# Altium schematic symbol library OSHW_LuxonisMaster_20201223.SchLib: 185 symbols (part 5 of 10)
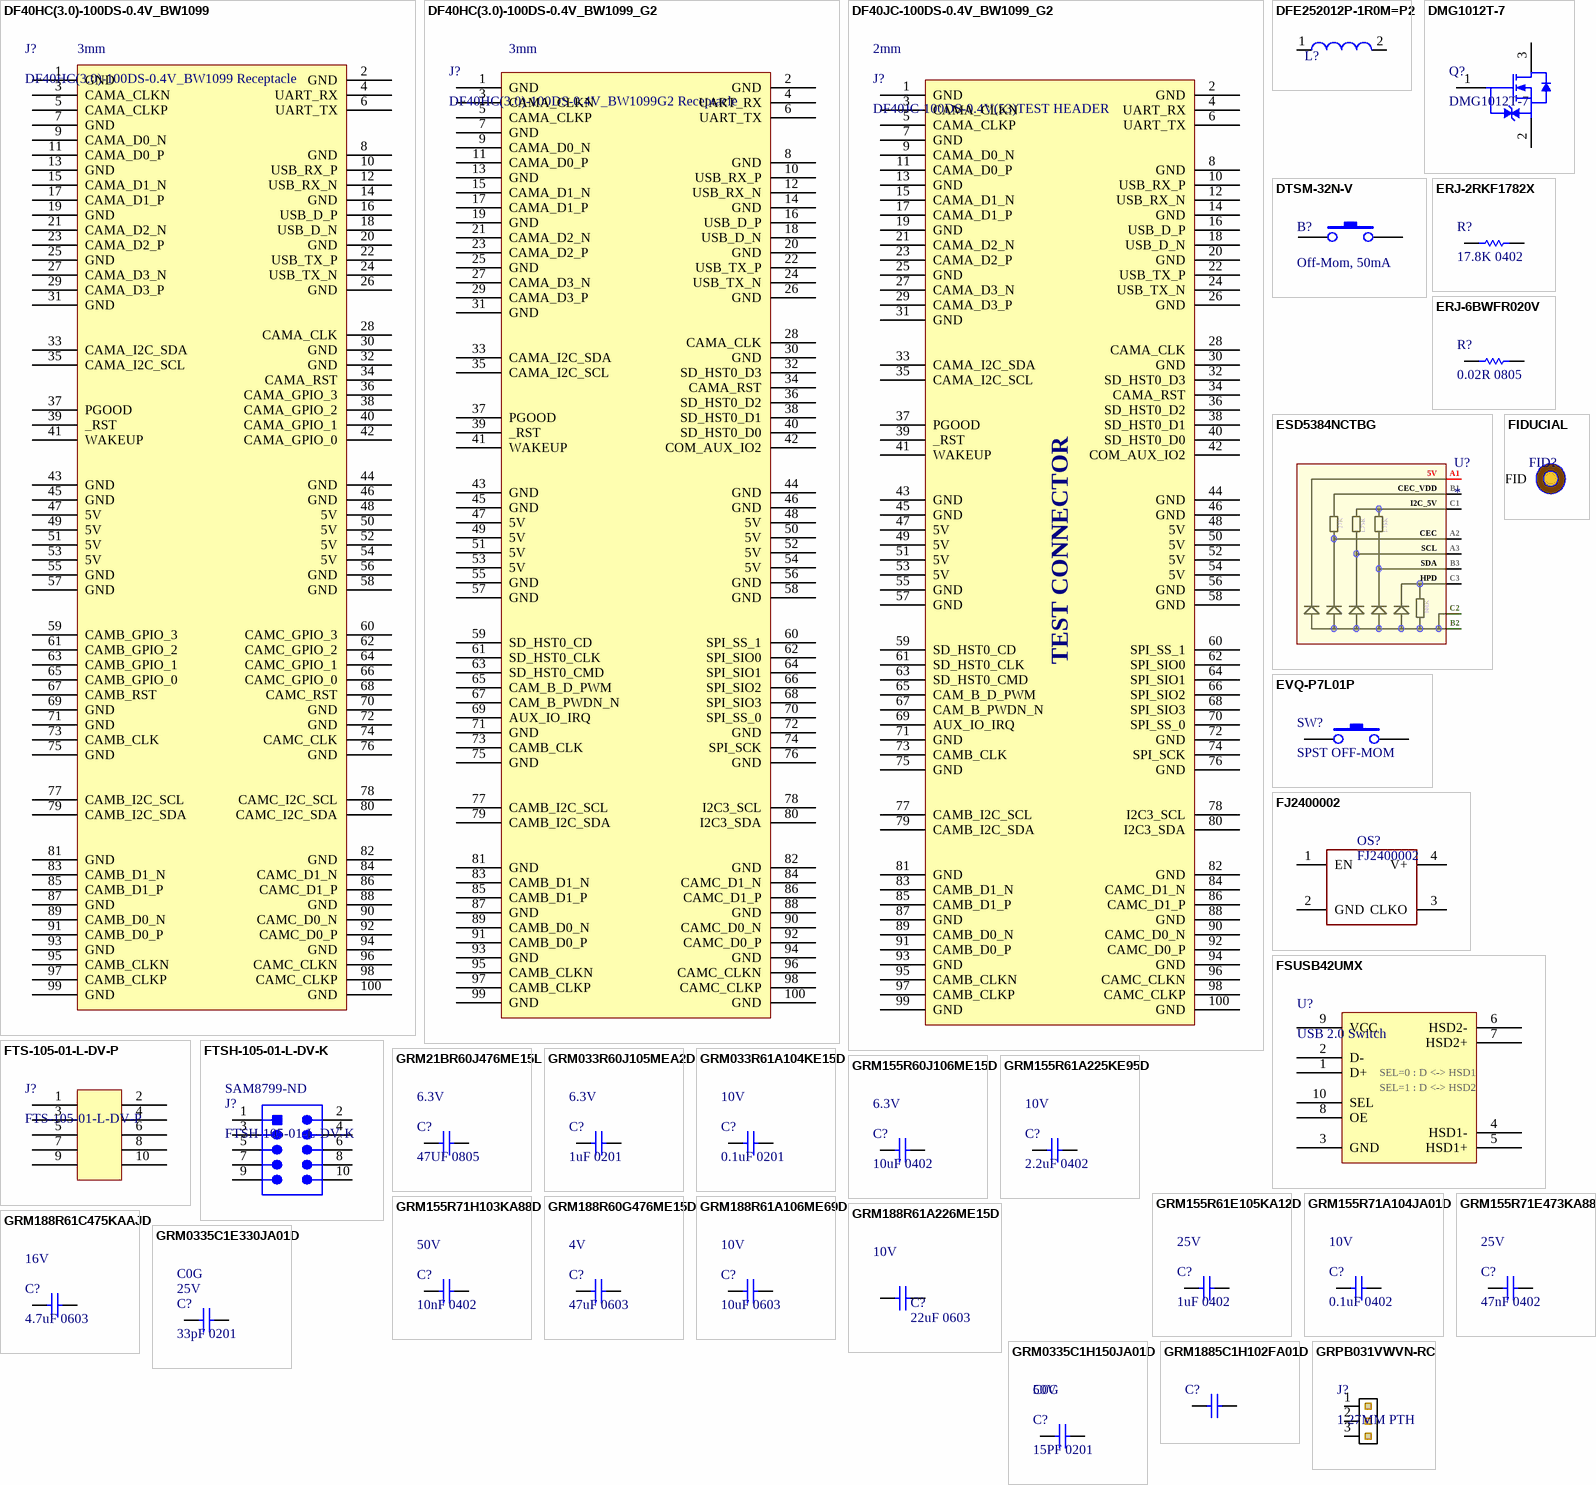
[diagram p11: symbols DF40HC(3.0)-100DS-0.4V_BW1099 to GRPB031VWVN-RC]

## GRM155R61A225KE95D
designator C?, comment 2.2uF 0402  Voltage Rating: 10V
CAP CER 2.2UF 10V X5R 0402 10%; Manufacturer 1: Murata; Manufacturer Part Number 1: GRM155R61A225KE95D; Material: Ceramic; Supplier 1: Digi-Key; Stock 1: 1453518; Pricing 1: 1=0.13000, 10=0.09000, 100=0.04250, 500=0.02982, 1000=0.02469, 2500=0.02298, 5000=0.02103 (USD); RoHS: Yes; Mount: Surface Mount; Case/Package: 0402; Weight: 0.000212oz; Case Code (Metric): 1005; Case Code (Imperial): 0402; Min Operating Temperature: -55°C; Max Operating Temperature: 85°C; Capacitance: 2.2uF; Tolerance: 10%; Packaging: Tape and Reel; Dielectric: X5R; Termination: SMD/SMT; Voltage Rating (DC): 10V; Package Quantity: 10000; Length: 1mm; Height: 0.5mm; Width: 0.5mm; Thickness: 0.022inch; Depth: 0.5mm; REACH SVHC: No SVHC; Lead Free: Lead Free; ComponentLink1URL: http://www.mouser.com/ds/2/281/c02e-2905.pdf?src-supplier=Mouser; ComponentLink1Description: http://www.mouser.com/ds/2/281/c02e-2905.pdf?src-supplier=Mouser; ComponentLink2URL: http://components.arrow.com/part/dataview/0323_04264073?src-supplier=Arrow+Europe; ComponentLink2Description: http://components.arrow.com/part/dataview/0323_04264073?src-supplier=Arrow+Europe; ComponentLink3URL: http://www.farnell.com/datasheets/1872202.pdf?src-supplier=Farnell; ComponentLink3Description: http://www.farnell.com/datasheets/1872202.pdf?src-supplier=Farnell; ComponentLink4URL: http://www.farnell.com/datasheets/2047915.pdf?src-supplier=Farnell; ComponentLink4Description: http://www.farnell.com/datasheets/2047915.pdf?src-supplier=Farnell; ComponentLink5URL: http://www.farnell.com/datasheets/1872202.pdf?src-supplier=Element14; ComponentLink5Description: http://www.farnell.com/datasheets/1872202.pdf?src-supplier=Element14; ComponentLink6URL: http://psearch.en.murata.com/capacitor/product/GRM155R61A225KE95%23.pdf?src-supplier=Avnet; ComponentLink6Description: http://psearch.en.murata.com/capacitor/product/GRM155R61A225KE95%23.pdf?src-supplier=Avnet; ComponentLink7URL: http://www.farnell.com/datasheets/2047915.pdf?src-supplier=Element14; ComponentLink7Description: http://www.farnell.com/datasheets/2047915.pdf?src-supplier=Element14; ComponentLink8URL: https://search.murata.co.jp/Ceramy/image/img/A01X/G101/ENG/GRM155R61A225KE95-01.pdf?src-supplier=Digi-Key; ComponentLink8Description: https://search.murata.co.jp/Ceramy/image/img/A01X/G101/ENG/GRM155R61A225KE95-01.pdf?src-supplier=Digi-Key; ComponentLink9URL: http://www.farnell.com/datasheets/2047915.pdf?src-supplier=Newark; ComponentLink9Description: http://www.farnell.com/datasheets/2047915.pdf?src-supplier=Newark; Supplier Part Number 1: 490-10451-1-ND
footprint CAPC0402(1005)70_N (Chip Capacitor, Body 1.0x0.5mm, Height 0.7mm, IPC Medium Density)
footprint CAPC0402(1005)70_M (Chip Capacitor, Body 1.0x0.5mm, Height 0.7mm, IPC Low Density)
footprint CAPC0402(1005)70_L (Chip Capacitor, Body 1.0x0.5mm, Height 0.7mm, IPC High Density)
pins: 1, 2

## GRM155R61E105KA12D
designator C?, comment 1uF 0402  Voltage Rating: 25V
CAP CER 1UF 25V X5R 0402 10%; Manufacturer 1: Murata; Manufacturer Part Number 1: GRM155R61E105KA12D; Material: Ceramic; Supplier 1: Digi-Key; Stock 1: 200653; Pricing 1: 1=0.10000, 10=0.07100, 100=0.03350, 500=0.02352, 1000=0.01947, 2500=0.01812, 5000=0.01658 (USD); RoHS: Yes; Mount: Surface Mount; Case/Package: 0402; Weight: 0.000212oz; Case Code (Metric): 1005; Case Code (Imperial): 0402; Min Operating Temperature: -55°C; Max Operating Temperature: 85°C; Tolerance: 10%; Capacitance: 1uF; Dielectric: X5R; Voltage Rating (DC): 25V; Packaging: Tape and Reel; Package Quantity: 10000; Termination: SMD/SMT; Voltage: 25V; Length: 1mm; Height: 0.5mm; Width: 0.5mm; Thickness: 0.022inch; Depth: 0.5mm; Lead Free: Lead Free; REACH SVHC: No SVHC; ComponentLink1URL: https://datasheet.ciiva.com/22732/1666664-22732122.pdf?src-supplier=Element14; ComponentLink1Description: https://datasheet.ciiva.com/22732/1666664-22732122.pdf?src-supplier=Element14; ComponentLink2URL: https://datasheet.ciiva.com/7719/1666664-7719006.pdf?src-supplier=Element14; ComponentLink2Description: https://datasheet.ciiva.com/7719/1666664-7719006.pdf?src-supplier=Element14; Supplier Part Number 1: 490-10017-1-ND; Supplier 2: Arrow; Supplier 3: TTI; Supplier Part Number 2: GRM155R61E105KA12D; Supplier Part Number 3: GRM155R61E105KA12D
footprint CAPC0402(1005)70_N (Chip Capacitor, Body 1.0x0.5mm, Height 0.7mm, IPC Medium Density)
footprint CAPC0402(1005)70_M (Chip Capacitor, Body 1.0x0.5mm, Height 0.7mm, IPC Low Density)
footprint CAPC0402(1005)70_L (Chip Capacitor, Body 1.0x0.5mm, Height 0.7mm, IPC High Density)
pins: 1, 2

## GRM155R71A104JA01D
designator C?, comment 0.1uF 0402  Voltage Rating: 10V
CAP CER 0.1UF 10V X7R 0402 5%; Manufacturer 1: Murata; Manufacturer Part Number 1: GRM155R71A104JA01D; Capacitance: 100nF; Supplier 1: Digi-Key; Stock 1: 1346709; Pricing 1: 1=0.10000, 10=0.02500, 100=0.01130, 500=0.00806, 1000=0.00633, 2500=0.00575, 5000=0.00529 (USD); RoHS: Yes; Mount: Surface Mount; Case/Package: 0402; Case Code (Imperial): 0402; Case Code (Metric): 1005; Min Operating Temperature: -55°C; Max Operating Temperature: 125°C; Tolerance: 5%; Packaging: Tape and Reel; Voltage Rating (DC): 10V; Dielectric: X7R; Package Quantity: 10000; Termination: SMD/SMT; Length: 1mm; Height: 0.5mm; Width: 0.02inch; Thickness: 0.022inch; Depth: 0.5mm; Radiation Hardening: No; Lead Free: Lead Free; ComponentLink1URL: https://datasheet.ciiva.com/5411/product-5411135.pdf?src-supplier=Mouser; ComponentLink1Description: https://datasheet.ciiva.com/5411/product-5411135.pdf?src-supplier=Mouser; ComponentLink2URL: https://datasheet.ciiva.com/11618/c02e-11618821.pdf?src-supplier=Avnet; ComponentLink2Description: https://datasheet.ciiva.com/11618/c02e-11618821.pdf?src-supplier=Avnet; Supplier Part Number 1: 490-10777-1-ND
footprint CAPC0402(1005)70_N (Chip Capacitor, Body 1.0x0.5mm, Height 0.7mm, IPC Medium Density)
footprint CAPC0402(1005)70_M (Chip Capacitor, Body 1.0x0.5mm, Height 0.7mm, IPC Low Density)
footprint CAPC0402(1005)70_L (Chip Capacitor, Body 1.0x0.5mm, Height 0.7mm, IPC High Density)
pins: 1, 2

## GRM155R71E473KA88D
designator C?, comment 47nF 0402  Voltage: 25V
CAP CER 0.047UF 25V X7R 0402 10%; Manufacturer: Murata; Manufacturer Part Number: GRM155R71E473KA88D; Material: Ceramic; RoHS: Yes; Mount: Surface Mount; Case/Package: 0402; Number of Pins: 2; Case Code (Metric): 1005; Case Code (Imperial): 0402; Min Operating Temperature: -55°C; Max Operating Temperature: 125°C; Capacitance: 47nF; Tolerance: 10%; Packaging: Tape and Reel; Dielectric: X7R; Voltage Rating (DC): 25V; Package Quantity: 1; Termination: SMD/SMT; Voltage Rating: 25V; Length: 1mm; Height: 0.5mm; Width: 0.02inch; Depth: 0.5mm; Thickness: 0.022inch; Radiation Hardening: No; Lead Free: Lead Free; REACH SVHC: No SVHC; ComponentLink1URL: https://datasheet.ciiva.com/17455/product-17455616.pdf?src-supplier=Avnet+Europe; ComponentLink1Description: https://datasheet.ciiva.com/17455/product-17455616.pdf?src-supplier=Avnet+Europe; ComponentLink2URL: https://datasheet.ciiva.com/131/grm155r71e473ka88-01-131494.pdf?src-supplier=Digi-Key; ComponentLink2Description: https://datasheet.ciiva.com/131/grm155r71e473ka88-01-131494.pdf?src-supplier=Digi-Key; ComponentLink3URL: https://datasheet.ciiva.com/34302/1856425-34302854.pdf?src-supplier=Jameco; ComponentLink3Description: https://datasheet.ciiva.com/34302/1856425-34302854.pdf?src-supplier=Jameco; ComponentLink4URL: https://datasheet.ciiva.com/18184/getdatasheetpartid-153136-18184712.pdf?src-supplier=Verical; ComponentLink4Description: https://datasheet.ciiva.com/18184/getdatasheetpartid-153136-18184712.pdf?src-supplier=Verical; ComponentLink5URL: https://datasheet.ciiva.com/29199/454180-da-01-en-vs-kondensator-0402-29199826.pdf?src-supplier=Conrad; ComponentLink5Description: https://datasheet.ciiva.com/29199/454180-da-01-en-vs-kondensator-0402-29199826.pdf?src-supplier=Conrad; ComponentLink6URL: https://datasheet.ciiva.com/2989/product-2989395.pdf?src-supplier=Avnet; ComponentLink6Description: https://datasheet.ciiva.com/2989/product-2989395.pdf?src-supplier=Avnet; ComponentLink7URL: https://datasheet.ciiva.com/131/grm155r71e473ka88-01-131492.pdf?src-supplier=Digi-Key; ComponentLink7Description: https://datasheet.ciiva.com/131/grm155r71e473ka88-01-131492.pdf?src-supplier=Digi-Key; ComponentLink8URL: https://datasheet.ciiva.com/131/grm155r71e473ka88-01-131493.pdf?src-supplier=Digi-Key; ComponentLink8Description: https://datasheet.ciiva.com/131/grm155r71e473ka88-01-131493.pdf?src-supplier=Digi-Key; ComponentLink9URL: https://datasheet.ciiva.com/7937/608985-7937623.pdf?src-supplier=Element14; ComponentLink9Description: https://datasheet.ciiva.com/7937/608985-7937623.pdf?src-supplier=Element14; ComponentLink10URL: https://datasheet.ciiva.com/14103/grmseries-highdielectrictype-eng-14103754.pdf?src-supplier=Distrelec; ComponentLink10Description: https://datasheet.ciiva.com/14103/grmseries-highdielectrictype-eng-14103754.pdf?src-supplier=Distrelec; ComponentLink11URL: https://datasheet.ciiva.com/5424/product-5424844.pdf?src-supplier=Mouser; ComponentLink11Description: https://datasheet.ciiva.com/5424/product-5424844.pdf?src-supplier=Mouser; ComponentLink12URL: https://datasheet.ciiva.com/16213/product-16213823.pdf?src-supplier=Future+Electronics; ComponentLink12Description: https://datasheet.ciiva.com/16213/product-16213823.pdf?src-supplier=Future+Electronics; Supplier 1: Digi-Key; Manufacturer 1: Murata; Manufacturer Part Number 1: GRM155R71E473KA88D; Stock 1: 1130633; Pricing 1: 1=0.10000, 10=0.06300, 100=0.02820, 500=0.02012, 1000=0.01581, 2500=0.01438, 5000=0.01323 (USD); Supplier Part Number 1: 490-3254-1-ND
footprint CAPC0402(1005)70_N (Chip Capacitor, Body 1.0x0.5mm, Height 0.7mm, IPC Medium Density)
footprint CAPC0402(1005)70_M (Chip Capacitor, Body 1.0x0.5mm, Height 0.7mm, IPC Low Density)
footprint CAPC0402(1005)70_L (Chip Capacitor, Body 1.0x0.5mm, Height 0.7mm, IPC High Density)
pins: 1, 2

## GRM155R71H103KA88D
designator C?, comment 10nF 0402  Voltage Rating: 50V
CAP CER 10000PF 50V X7R 0402; Manufacturer 1: Murata; Manufacturer Part Number 1: GRM155R71H103KA88D; Material: Ceramic; Tolerance: 10%; Voltage: 25V; Supplier 1: Digi-Key; Stock 1: 6923572; Pricing 1: 1=0.10000, 10=0.03800, 100=0.01690, 500=0.01208, 1000=0.00949, 2500=0.00862, 5000=0.00794 (USD); RoHS: Yes; Mount: Surface Mount; Case/Package: 0402; Number of Pins: 2; Case Code (Metric): 1005; Case Code (Imperial): 0402; Min Operating Temperature: -55°C; Max Operating Temperature: 125°C; Capacitance: 10nF; Packaging: Tape and Reel; Termination: SMD/SMT; Voltage Rating (DC): 50V; Package Quantity: 1; Dielectric: X7R; Length: 1mm; Height: 0.5mm; Width: 0.02inch; Thickness: 0.022inch; Depth: 0.5mm; Radiation Hardening: No; REACH SVHC: No SVHC; Lead Free: Lead Free; ComponentLink1URL: https://datasheet.ciiva.com/129/product-129810.pdf?src-supplier=Digi-Key; ComponentLink1Description: https://datasheet.ciiva.com/129/product-129810.pdf?src-supplier=Digi-Key; ComponentLink2URL: https://datasheet.ciiva.com/19476/1856433-19476546.pdf?src-supplier=Jameco; ComponentLink2Description: https://datasheet.ciiva.com/19476/1856433-19476546.pdf?src-supplier=Jameco; ComponentLink3URL: https://datasheet.ciiva.com/11786/0900766b80ef921d-11786340.pdf?src-supplier=RSComponents; ComponentLink3Description: https://datasheet.ciiva.com/11786/0900766b80ef921d-11786340.pdf?src-supplier=RSComponents; ComponentLink4URL: https://datasheet.ciiva.com/18100/getdatasheetpartid-27434-18100660.pdf?src-supplier=Verical; ComponentLink4Description: https://datasheet.ciiva.com/18100/getdatasheetpartid-27434-18100660.pdf?src-supplier=Verical; ComponentLink5URL: https://datasheet.ciiva.com/22698/1747449-22698420.pdf?src-supplier=Element14; ComponentLink5Description: https://datasheet.ciiva.com/22698/1747449-22698420.pdf?src-supplier=Element14; ComponentLink6URL: https://datasheet.ciiva.com/29199/454225-da-01-en-vs-kondensator-0402-29199740.pdf?src-supplier=Conrad; ComponentLink6Description: https://datasheet.ciiva.com/29199/454225-da-01-en-vs-kondensator-0402-29199740.pdf?src-supplier=Conrad; ComponentLink7URL: https://datasheet.ciiva.com/129/grm155r71h103ka88-01-129811.pdf?src-supplier=Digi-Key; ComponentLink7Description: https://datasheet.ciiva.com/129/grm155r71h103ka88-01-129811.pdf?src-supplier=Digi-Key; ComponentLink8URL: https://datasheet.ciiva.com/129/grm155r71h103ka88-01-129812.pdf?src-supplier=Digi-Key; ComponentLink8Description: https://datasheet.ciiva.com/129/grm155r71h103ka88-01-129812.pdf?src-supplier=Digi-Key; ComponentLink9URL: https://datasheet.ciiva.com/16495/product-16495290.pdf?src-supplier=Future+Electronics; ComponentLink9Description: https://datasheet.ciiva.com/16495/product-16495290.pdf?src-supplier=Future+Electronics; ComponentLink10URL: https://datasheet.ciiva.com/5410/product-5410990.pdf?src-supplier=Mouser; ComponentLink10Description: https://datasheet.ciiva.com/5410/product-5410990.pdf?src-supplier=Mouser; Supplier 2: Mouser; Supplier 3: Arrow; Supplier Part Number 1: 490-4516-1-ND; Supplier Part Number 2: 81-GRM155R71H103KA8D; Supplier Part Number 3: GRM155R71H103KA88D
footprint CAPC0402(1005)60_L (Chip Capacitor, Body 1.0x0.5mm, Height 0.6mm, IPC High Density)
footprint CAPC0402(1005)60_M (Chip Capacitor, Body 1.0x0.5mm, Height 0.6mm, IPC Low Density)
footprint CAPC0402(1005)60_N (Chip Capacitor, Body 1.0x0.5mm, Height 0.6mm, IPC Medium Density)
pins: 1, 2

## GRM188R60G476ME15D
designator C?, comment 47uF 0603  Voltage Rating: 4V
CAP CER 47UF 4V X5R 0603; Manufacturer 1: Murata; Manufacturer Part Number 1: GRM188R60G476ME15D; Tolerance: 20%; Supplier 1: Digi-Key; Stock 1: 244871; Pricing 1: 1=0.60000, 10=0.42300, 100=0.27850, 500=0.20632, 1000=0.17537 (USD); RoHS: Yes; Mount: Surface Mount; Case/Package: 0603; Case Code (Metric): 1608; Case Code (Imperial): 0603; Min Operating Temperature: -55°C; Max Operating Temperature: 85°C; Packaging: Tape and Reel; Capacitance: 47uF; Length: 0.063inch; Width: 0.031inch; Thickness: 0.039inch; ComponentLink1URL: http://search.murata.co.jp/Ceramy/image/img/A01X/G101/ENG/GRM188R60G476ME15-01.pdf?src-supplier=Digi-Key; ComponentLink1Description: http://search.murata.co.jp/Ceramy/image/img/A01X/G101/ENG/GRM188R60G476ME15-01.pdf?src-supplier=Digi-Key; Supplier 2: Mouser; Supplier 3: Arrow; Supplier Part Number 1: 490-13246-1-ND; Supplier Part Number 2: 81-GRM188R60G476ME5D; Supplier Part Number 3: GRM188R60G476ME15D
footprint CAPC0603(1608)100_L (Chip Capacitor, Body 1.6x0.8mm, Height 1.0mm, IPC High Density)
footprint CAPC0603(1608)100_M (Chip Capacitor, Body 1.6x0.8mm, Height 1.0mm, IPC Low Density)
footprint CAPC0603(1608)100_N (Chip Capacitor, Body 1.6x0.8mm, Height 1.0mm, IPC Medium Density)
pins: 1, 2

## GRM188R61A106ME69D
designator C?, comment 10uF 0603  Voltage Rating: 10V
CAP CER 10UF 10V X5R 0603 20%; Manufacturer 1: Murata; Manufacturer Part Number 1: GRM188R61A106ME69D; Material: Ceramic; Supplier 1: Digi-Key; Stock 1: 2873098; Pricing 1: 1=0.21000, 10=0.14100, 100=0.07130, 500=0.04876, 1000=0.04313 (USD); RoHS: Yes; Mount: Surface Mount; Case/Package: 0603; Weight: 0.000222oz; Case Code (Metric): 1608; Case Code (Imperial): 0603; Min Operating Temperature: -55°C; Max Operating Temperature: 85°C; Packaging: Tape and Reel; Tolerance: 20%; Capacitance: 10uF; Dielectric: X5R; Voltage Rating (DC): 10V; Package Quantity: 4000; Termination: SMD/SMT; Length: 1.6mm; Height: 0.8mm; Width: 0.8mm; Thickness: 0.035inch; Depth: 0.8mm; REACH SVHC: Unknown; Lead Free: Lead Free; ComponentLink1URL: http://www.mouser.com/ds/2/281/c02e-2905.pdf?src-supplier=Mouser; ComponentLink1Description: http://www.mouser.com/ds/2/281/c02e-2905.pdf?src-supplier=Mouser; ComponentLink2URL: http://components.arrow.com/part/dataview/0323_06119472?src-supplier=Arrow+Europe; ComponentLink2Description: http://components.arrow.com/part/dataview/0323_06119472?src-supplier=Arrow+Europe; ComponentLink3URL: http://www.farnell.com/datasheets/2048014.pdf?src-supplier=Farnell; ComponentLink3Description: http://www.farnell.com/datasheets/2048014.pdf?src-supplier=Farnell; ComponentLink4URL: http://www.farnell.com/datasheets/1872210.pdf?src-supplier=Farnell; ComponentLink4Description: http://www.farnell.com/datasheets/1872210.pdf?src-supplier=Farnell; ComponentLink5URL: http://search.murata.co.jp/Ceramy/image/img/A01X/G101/ENG/GRM188R61A106ME69-01.pdf?src-supplier=Digi-Key; ComponentLink5Description: http://search.murata.co.jp/Ceramy/image/img/A01X/G101/ENG/GRM188R61A106ME69-01.pdf?src-supplier=Digi-Key; ComponentLink6URL: http://www.farnell.com/datasheets/1872210.pdf?src-supplier=Newark; ComponentLink6Description: http://www.farnell.com/datasheets/1872210.pdf?src-supplier=Newark; ComponentLink7URL: http://www.farnell.com/datasheets/2048014.pdf?src-supplier=Element14; ComponentLink7Description: http://www.farnell.com/datasheets/2048014.pdf?src-supplier=Element14; ComponentLink8URL: http://www.farnell.com/datasheets/2048014.pdf?src-supplier=Newark; ComponentLink8Description: http://www.farnell.com/datasheets/2048014.pdf?src-supplier=Newark; Supplier Part Number 1: 490-10475-1-ND
footprint CAPC0603(1608)100_N (Chip Capacitor, Body 1.6x0.8mm, Height 1.0mm, IPC Medium Density)
footprint CAPC0603(1608)100_M (Chip Capacitor, Body 1.6x0.8mm, Height 1.0mm, IPC Low Density)
footprint CAPC0603(1608)100_L (Chip Capacitor, Body 1.6x0.8mm, Height 1.0mm, IPC High Density)
pins: 1, 2

## GRM188R61A226ME15D
designator C?, comment 22uF 0603  Voltage Rating: 10V
CAP CER 22UF 10V X5R 0603 20%; Manufacturer 1: Murata; Manufacturer Part Number 1: GRM188R61A226ME15D; Material: Ceramic; ComponentLink1URL: https://datasheet.ciiva.com/46444/1769893-46444975.pdf?src-supplier=Element14; ComponentLink1Description: https://datasheet.ciiva.com/46444/1769893-46444975.pdf?src-supplier=Element14; Supplier 1: Digi-Key; Stock 1: 984716; Pricing 1: 1=0.31000, 10=0.21500, 100=0.12160, 500=0.08584, 1000=0.07512 (USD); RoHS: Yes; Mount: Surface Mount; Case/Package: 0603; Weight: 0.000222oz; Case Code (Metric): 1608; Case Code (Imperial): 0603; Min Operating Temperature: -55°C; Max Operating Temperature: 85°C; Capacitance: 22uF; Tolerance: 20%; Packaging: Tape and Reel; Dielectric: X5R; Voltage Rating (DC): 10V; Termination: SMD/SMT; Package Quantity: 4000; Length: 1.6mm; Height: 0.8mm; Width: 0.8mm; Thickness: 0.039inch; Depth: 0.8mm; REACH SVHC: No SVHC; Lead Free: Lead Free; Supplier Part Number 1: 490-10476-1-ND
footprint CAPC0603(1608)100_N (Chip Capacitor, Body 1.6x0.8mm, Height 1.0mm, IPC Medium Density)
footprint CAPC0603(1608)100_M (Chip Capacitor, Body 1.6x0.8mm, Height 1.0mm, IPC Low Density)
footprint CAPC0603(1608)100_L (Chip Capacitor, Body 1.6x0.8mm, Height 1.0mm, IPC High Density)
pins: 1, 2

## GRM188R61C475KAAJD
designator C?, comment 4.7uF 0603  Voltage Rating: 16V
CAP CER 4.7UF 16V X5R 0603 10%; Manufacturer 1: Murata; Manufacturer Part Number 1: GRM188R61C475KAAJD; Material: Ceramic; Supplier 1: Digi-Key; Stock 1: 455058; Pricing 1: 1=0.35000, 10=0.24600, 100=0.14730, 500=0.11050, 1000=0.09331 (USD); RoHS: Yes; Mount: Surface Mount; Case/Package: 0603; Weight: 0.000222oz; Case Code (Metric): 1608; Case Code (Imperial): 0603; Min Operating Temperature: -55°C; Max Operating Temperature: 85°C; Capacitance: 4.7uF; Tolerance: 10%; Packaging: Tape and Reel; Dielectric: X5R; Termination: SMD/SMT; Voltage Rating (DC): 16V; Package Quantity: 4000; Length: 1.6mm; Height: 0.8mm; Width: 0.8mm; Thickness: 0.037inch; Depth: 0.8mm; REACH SVHC: No SVHC; Lead Free: Lead Free; ComponentLink1URL: https://datasheet.ciiva.com/14813/595grm188r61c475kaaj23-14813668.pdf?src-supplier=Arrow; ComponentLink1Description: https://datasheet.ciiva.com/14813/595grm188r61c475kaaj23-14813668.pdf?src-supplier=Arrow; Supplier 2: Digi-Key; Manufacturer 2: Murata; Manufacturer Part Number 2: GRM188R61C475KAAJD; Stock 2: 455058; Pricing 2: 1=0.35000, 10=0.24600, 100=0.14730, 500=0.11050, 1000=0.09331 (USD); Supplier 3: Digi-Key; Manufacturer 3: Murata; Manufacturer Part Number 3: GRM188R61C475KAAJD; Stock 3: 452000; Pricing 3: 4000=0.07259, 8000=0.06832, 12000=0.06619, 28000=0.06405 (USD); Supplier Part Number 1: 490-10481-1-ND; Supplier Part Number 2: 490-10481-6-ND; Supplier Part Number 3: 490-10481-2-ND
footprint CAPC0603(1608)100_N (Chip Capacitor, Body 1.6x0.8mm, Height 1.0mm, IPC Medium Density)
footprint CAPC0603(1608)100_M (Chip Capacitor, Body 1.6x0.8mm, Height 1.0mm, IPC Low Density)
footprint CAPC0603(1608)100_L (Chip Capacitor, Body 1.6x0.8mm, Height 1.0mm, IPC High Density)
pins: 1, 2

## GRM0335C1E330JA01D
designator C?, comment 33pF 0201  Voltage Rating: 25V  Dielectric: C0G
CAP CER 33PF 25V C0G/NP0 0201; Manufacturer 1: Murata; Manufacturer Part Number 1: GRM0335C1E330JA01D; Tolerance: 5%; Supplier 1: Digi-Key; Stock 1: 1107200; Pricing 1: 1=0.10000, 10=0.01500, 100=0.00680, 500=0.00484, 1000=0.00380, 2500=0.00345, 5000=0.00317 (USD); RoHS: Yes; Mount: Surface Mount; Case/Package: 0201; Case Code (Metric): 0603; Case Code (Imperial): 0201; Min Operating Temperature: -55°C; Max Operating Temperature: 125°C; Capacitance: 33pF; Packaging: Tape and Reel; Package Quantity: 15000; Voltage Rating (DC): 25V; Termination: SMD/SMT; Length: 0.6mm; Height: 0.3mm; Width: 0.012inch; Thickness: 0.013inch; Depth: 0.3mm; REACH SVHC: No SVHC; Lead Free: Lead Free; ComponentLink1URL: https://datasheet.ciiva.com/29538/partnumbering-e-01-29538933.pdf?src-supplier=Digi-Key; ComponentLink1Description: https://datasheet.ciiva.com/29538/partnumbering-e-01-29538933.pdf?src-supplier=Digi-Key; Supplier 2: Mouser; Supplier Part Number 2: 81-GRM0335C1E330JA1D; Supplier Part Number 1: 490-10678-1-ND
footprint CAPC0201(0603)33_L (Chip Capacitor, Body 0.6x0.3mm, Height 0.33mm, IPC High Density)
footprint CAPC0201(0603)33_M (Chip Capacitor, Body 0.6x0.3mm, Height 0.33mm, IPC Low Density)
footprint CAPC0201(0603)33_N (Chip Capacitor, Body 0.6x0.3mm, Height 0.33mm, IPC Medium Density)
pins: 1, 2

## GRM0335C1H150JA01D
designator C?, comment 15PF 0201  Voltage: 50V  Dielectric: C0G
CAP CER 15PF 50V C0G/NP0 0201; Manufacturer 1: Murata; Manufacturer Part Number 1: GRM0335C1H150JA01D; Tolerance: 5%; Supplier 1: Digi-Key; Stock 1: 667552; Pricing 1: 1=0.10000, 10=0.01500, 100=0.00680, 500=0.00484, 1000=0.00380, 2500=0.00345, 5000=0.00317 (USD); RoHS: Yes; Mount: Surface Mount; Case/Package: 0201; Case Code (Metric): 0603; Case Code (Imperial): 0201; Min Operating Temperature: -55°C; Max Operating Temperature: 125°C; Capacitance: 15pF; Packaging: Tape and Reel; Voltage Rating: 50V; Voltage Rating (DC): 50V; Package Quantity: 1; Termination: SMD/SMT; Length: 0.6mm; Height: 0.3mm; Width: 0.012inch; Thickness: 0.013inch; Depth: 0.3mm; Radiation Hardening: No; Lead Free: Lead Free; REACH SVHC: No SVHC; ComponentLink1URL: https://datasheet.ciiva.com/11608/product-11608680.pdf?src-supplier=Avnet; ComponentLink1Description: https://datasheet.ciiva.com/11608/product-11608680.pdf?src-supplier=Avnet; ComponentLink2URL: https://datasheet.ciiva.com/26843/getdatasheetpartid-707838-26843722.pdf?src-supplier=Verical; ComponentLink2Description: https://datasheet.ciiva.com/26843/getdatasheetpartid-707838-26843722.pdf?src-supplier=Verical; ComponentLink3URL: https://datasheet.ciiva.com/14906/partnumbering-e-01-14906504.pdf?src-supplier=Digi-Key; ComponentLink3Description: https://datasheet.ciiva.com/14906/partnumbering-e-01-14906504.pdf?src-supplier=Digi-Key; ComponentLink4URL: https://datasheet.ciiva.com/5445/product-5445691.pdf?src-supplier=Mouser; ComponentLink4Description: https://datasheet.ciiva.com/5445/product-5445691.pdf?src-supplier=Mouser; Supplier 2: Mouser; Supplier Part Number 1: 490-6116-1-ND; Supplier Part Number 2: 81-GRM0335C1H150JA1D
footprint CAPC0201(0603)33_L (Chip Capacitor, Body 0.6x0.3mm, Height 0.33mm, IPC High Density)
footprint CAPC0201(0603)33_M (Chip Capacitor, Body 0.6x0.3mm, Height 0.33mm, IPC Low Density)
footprint CAPC0201(0603)33_N (Chip Capacitor, Body 0.6x0.3mm, Height 0.33mm, IPC Medium Density)
pins: 1, 2

## GRM1885C1H102FA01D
designator C?, comment 1nF 0603 C0G  (value not drawn)
CAP CER 1000PF 50V C0G/NP0 0603; Manufacturer: Murata; Manufacturer Part Number: GRM1885C1H102FA01D; Material: Ceramic; Tolerance: 1%; Temperature Coefficient: 30ppm/°C; RoHS: Yes; Mount: Surface Mount; Number of Pins: 2; Case Code (Metric): 1608; Case Code (Imperial): 0603; Min Operating Temperature: -55°C; Max Operating Temperature: 125°C; Packaging: Tape and Reel; Package Quantity: 4000; Termination: SMD/SMT; Voltage Rating (DC): 50V; Voltage: 50V; Length: 1.6mm; Height: 0.8mm; Width: 0.031inch; Thickness: 0.035inch; Depth: 0.8mm; Radiation Hardening: No; REACH SVHC: No SVHC; Lead Free: Lead Free; ComponentLink1URL: https://datasheet.ciiva.com/6072/1747444-6072454.pdf?src-supplier=Farnell; ComponentLink1Description: https://datasheet.ciiva.com/6072/1747444-6072454.pdf?src-supplier=Farnell; ComponentLink2URL: https://datasheet.ciiva.com/7828/1747444-7828892.pdf?src-supplier=Element14; ComponentLink2Description: https://datasheet.ciiva.com/7828/1747444-7828892.pdf?src-supplier=Element14; ComponentLink3URL: https://datasheet.ciiva.com/11621/c02e-11621692.pdf?src-supplier=Avnet; ComponentLink3Description: https://datasheet.ciiva.com/11621/c02e-11621692.pdf?src-supplier=Avnet; ComponentLink4URL: https://datasheet.ciiva.com/16624/c02e-16624140.pdf?src-supplier=Avnet+Europe; ComponentLink4Description: https://datasheet.ciiva.com/16624/c02e-16624140.pdf?src-supplier=Avnet+Europe; ComponentLink5URL: https://datasheet.ciiva.com/22698/1747444-22698428.pdf?src-supplier=Element14; ComponentLink5Description: https://datasheet.ciiva.com/22698/1747444-22698428.pdf?src-supplier=Element14; ComponentLink6URL: https://datasheet.ciiva.com/5416/c02e-5416637.pdf?src-supplier=Mouser; ComponentLink6Description: https://datasheet.ciiva.com/5416/c02e-5416637.pdf?src-supplier=Mouser; ComponentLink7URL: https://datasheet.ciiva.com/6270/partnumbering-e-01-6270573.pdf?src-supplier=Digi-Key; ComponentLink7Description: https://datasheet.ciiva.com/6270/partnumbering-e-01-6270573.pdf?src-supplier=Digi-Key; ComponentLink8URL: https://datasheet.ciiva.com/6270/partnumbering-e-01-6270574.pdf?src-supplier=Digi-Key; ComponentLink8Description: https://datasheet.ciiva.com/6270/partnumbering-e-01-6270574.pdf?src-supplier=Digi-Key; ComponentLink9URL: https://datasheet.ciiva.com/6270/partnumbering-e-01-6270575.pdf?src-supplier=Digi-Key; ComponentLink9Description: https://datasheet.ciiva.com/6270/partnumbering-e-01-6270575.pdf?src-supplier=Digi-Key; ComponentLink10URL: https://datasheet.ciiva.com/16426/l0005e-16426367.pdf?src-supplier=Future+Electronics; ComponentLink10Description: https://datasheet.ciiva.com/16426/l0005e-16426367.pdf?src-supplier=Future+Electronics; Supplier 1: Digi-Key; Manufacturer 1: Murata; Manufacturer Part Number 1: GRM1885C1H102FA01D; Stock 1: 343900; Pricing 1: 1=0.19000, 10=0.13300, 100=0.06260, 500=0.04386, 1000=0.03631 (USD); Case/Package: 0603; Capacitance: 1nF; Dielectric: C0G; Voltage Rating: 50V; Supplier Part Number 1: 490-6376-1-ND
footprint CAPC0603(1608)100_N (Chip Capacitor, Body 1.6x0.8mm, Height 1.0mm, IPC Medium Density)
footprint CAPC0603(1608)100_M (Chip Capacitor, Body 1.6x0.8mm, Height 1.0mm, IPC Low Density)
footprint CAPC0603(1608)100_L (Chip Capacitor, Body 1.6x0.8mm, Height 1.0mm, IPC High Density)
pins: 1, 2

## GRPB031VWVN-RC
designator J?, comment 1.27MM PTH
CONN HEADER VERT 3POS 1.27MM; Manufacturer 1: Sullins; Manufacturer Part Number 1: GRPB031VWVN-RC; Number of Positions: 3; Connector Type: Male Pin; Pitch: 0.05inch; Supplier 1: Digi-Key; Stock 1: 114623; Pricing 1: 1=0.28000, 10=0.26100, 100=0.18300, 500=0.15688, 1000=0.13073, 5000=0.11205, 10000=0.10790 (USD); RoHS: Yes; Mount: Through Hole; Contact Plating: Gold; Package Quantity: 1; Number of Rows: 1; Packaging: Bulk; Termination: Solder; Contact Mating Length: 0.118inch; Lead Free: Lead Free; ComponentLink1URL: https://datasheet.ciiva.com/726/71-grpb-1vwvn-rc-10957-c-726649.pdf?src-supplier=Digi-Key; ComponentLink1Description: https://datasheet.ciiva.com/726/71-grpb-1vwvn-rc-10957-c-726649.pdf?src-supplier=Digi-Key; Supplier 2: Future Electronics; Supplier Part Number 1: S9014E-03-ND; Supplier Part Number 2: GRPB031VWVN-RC-BAG
footprint GRPB031VWVN-RC (Header, 3-Leads, Body 3.81x2.14mm, Pitch 1.27mm (SLIN-GRPB031VWVN-RC_V))
pins: 1, 2, 3

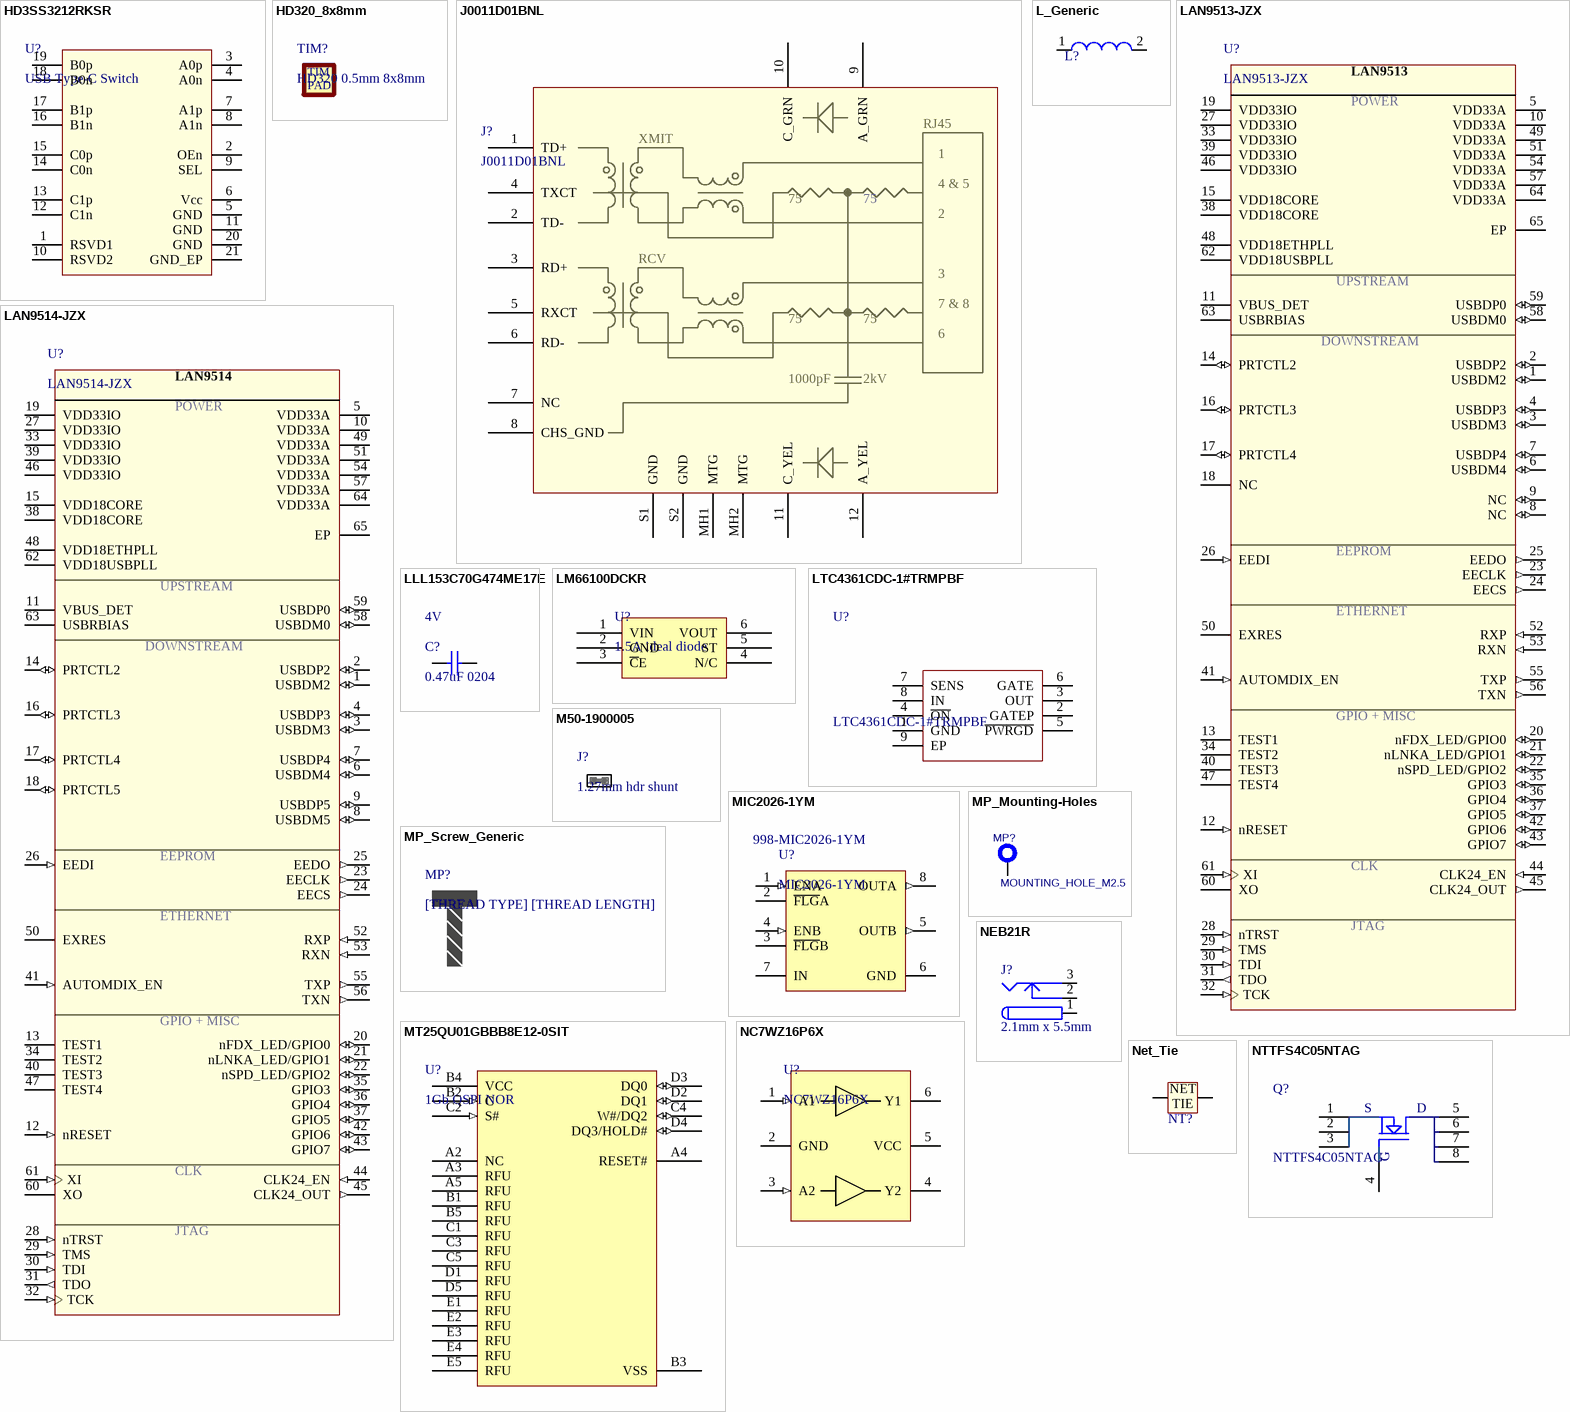
[diagram p4: symbols HD3SS3212RKSR to NTTFS4C05NTAG]

## HD3SS3212RKSR
designator U?, comment USB Type-C Switch
IC MUX 2:1 8 OHM 20VQFN; Manufacturer 1: Texas Instruments; Manufacturer Part Number 1: HD3SS3212RKSR; Bandwidth: 8GHz; Min Supply Voltage: 3V; Max Supply Voltage: 3.6V; Data Rate: 480Mbps; Number of Ports: 3; USB Standard: USB 3.1; Supplier 1: Digi-Key; Stock 1: 36674; Pricing 1: 1=1.79000, 10=1.61000, 100=1.29440, 500=1.06348, 1000=0.88117 (USD); RoHS: Yes; Mount: Standard; Case/Package: VQFN; Number of Pins: 20; Min Operating Temperature: 0°C; Max Operating Temperature: 70°C; Packaging: Tape and Reel; Lead Free: Lead Free; REACH SVHC: No SVHC; ComponentLink1URL: http://www.ti.com/general/docs/lit/getliterature.tsp?genericPartNumber=HD3SS3212&&fileType=pdf&src-supplier=Avnet; ComponentLink1Description: http://www.ti.com/general/docs/lit/getliterature.tsp?genericPartNumber=HD3SS3212&&fileType=pdf&src-supplier=Avnet; ComponentLink2URL: http://www.ti.com/general/docs/lit/getliterature.tsp?genericPartNumber=HD3SS3212&amp;&amp;fileType=pdf&src-supplier=Farnell; ComponentLink2Description: http://www.ti.com/general/docs/lit/getliterature.tsp?genericPartNumber=HD3SS3212&amp;&amp;fileType=pdf&src-supplier=Farnell; ComponentLink3URL: http://www.ti.com/lit/ds/symlink/hd3ss3212.pdf?src-supplier=Digi-Key; ComponentLink3Description: http://www.ti.com/lit/ds/symlink/hd3ss3212.pdf?src-supplier=Digi-Key; ComponentLink4URL: http://www.ti.com/lit/gpn/hd3ss3212?src-supplier=Mouser; ComponentLink4Description: http://www.ti.com/lit/gpn/hd3ss3212?src-supplier=Mouser; ComponentLink5URL: http://www.ti.com/general/docs/lit/getliterature.tsp?genericPartNumber=HD3SS3212&&fileType=pdf&src-supplier=Element14; ComponentLink5Description: http://www.ti.com/general/docs/lit/getliterature.tsp?genericPartNumber=HD3SS3212&&fileType=pdf&src-supplier=Element14; Supplier Part Number 1: 296-42174-1-ND
footprint HD3SS3212RKSR (VQFN-20)
pins: 1 RSVD1, 2 OEn, 3 A0p, 4 A0n, 5 GND, 6 Vcc, 7 A1p, 8 A1n, 9 SEL, 10 RSVD2, 11 GND, 12 C1n, 13 C1p, 14 C0n, 15 C0p, 16 B1n, 17 B1p, 18 B0n, 19 B0p, 20 GND, 21 GND_EP

## HD320_8x8mm
designator TIM?, comment HD320 0.5mm 8x8mm
Manufacturer 1: Laird; Manufacturer Part Number 1: HD320
footprint HD320_8x8mm (HD320 TIM 8x8mm 0.5mm thick, uncompressed)
text: TIM; PAD

## J0011D01BNL
designator J?
CONN MAGJACK 1PORT 100 BASE-TX 1 Port RJ45 Magjack Connector Through Hole 10/100 Base-TX, AutoMDIX; Manufacturer 1: Pulse; Number of Contacts: 8; Shielding: Shielded; Gender: Female; Current Rating: 8mA; Number of Ports: 1; Direction: Down; Number of Cores per Jack: 4; Pitch: 2.54mm; Supplier 1: Digi-Key; Manufacturer Part Number 1: J0011D01BNL; Stock 1: 2382; Pricing 1: 1=7.92000, 10=7.59000, 25=6.93000, 50=6.60000, 100=6.27000, 250=5.61000, 500=5.28000, 1000=4.62000 (USD); RoHS: Yes; Mount: Through Hole; Contact Plating: Gold; Contact Material: Bronze; Color: Green,Yellow; Housing Material: Thermoplastic; Min Operating Temperature: 0°C; Max Operating Temperature: 70°C; Termination: Solder; Orientation: Right Angle; Package Quantity: 30; Number of Rows: 1; Packaging: Tray; Connector Type: RJ45; Number of Positions Loaded: 8; Length: 16.26mm; Depth: 21.59mm; Radiation Hardening: No; Lead Free: Lead Free; ComponentLink1URL: https://datasheet.ciiva.com/3138/+j403-3138718.pdf?src-supplier=Avnet; ComponentLink1Description: https://datasheet.ciiva.com/3138/+j403-3138718.pdf?src-supplier=Avnet; ComponentLink2URL: https://datasheet.ciiva.com/16650/+j403-16650550.pdf?src-supplier=Avnet+Europe; ComponentLink2Description: https://datasheet.ciiva.com/16650/+j403-16650550.pdf?src-supplier=Avnet+Europe; Supplier Part Number 1: 553-1483-ND; Supplier 2: Arrow; Supplier 3: Mouser; Supplier 4: TTI; Supplier Part Number 2: J0011D01BNL; Supplier Part Number 3: 673-J0011D01BNL; Supplier Part Number 4: J0011D01BNL
footprint J0011D01BNL (THD, 12-Leads, Body 21.59x16.26mm, Pitch 1.27mm)
pins: 1 TD+, 1, 2 TD-, 2, 3 RD+, 4 TXCT, 5 RXCT, 6 RD-, 7 NC, 8 CHS_GND, 9 A_GRN, 10 C_GRN, 11 C_YEL, 12 A_YEL, MH1 MTG, MH2 MTG, S1 GND, S2 GND
text: XMIT; 4 & 5; 75; RCV; 7 & 8; 1000pF; 2kV

## L_Generic
designator L?
IND Generic
pins: 1, 2

## LAN9513-JZX
designator U?
IC USB 2.0 ETHER CTRLR 64QFN Ethernet Bridge, USB to Ethernet USB 2.0, 10/100 Base-T/TX PHY USB Interface 64-QFN (9x9); Manufacturer 1: Microchip; Operating Supply Voltage: 3.3V; Data Rate: 1.5Mbps; Max Power Dissipation: 857mW; Min Supply Voltage: 3V; Max Supply Voltage: 3.6V; Number of Transceivers: 1; Max Supply Current: 216mA; ComponentLink1Description: Manufacturer URL; ComponentLink2Description: Datasheet; ComponentLink2URL: http://ww1.microchip.com/downloads/en/DeviceDoc/9514.pdf; ComponentLink3URL: http://ww1.microchip.com/downloads/en/DeviceDoc/9514.pdf; ComponentLink1URL: www.microchip.com/; ComponentLink3Description: Package Specification; Manufacturer Part Number 1: LAN9513-JZX; Stock 1: 124; Pricing 1: 1=5.24000, 25=4.36720, 100=3.97580 (USD); RoHS: Yes; Mount: Surface Mount; Case/Package: QFN; Number of Pins: 64; Min Operating Temperature: 0°C; Max Operating Temperature: 70°C; Packaging: Tray; Package Quantity: 260; Interface: USB; Lead Free: Lead Free; REACH SVHC: No SVHC; ComponentLink4URL: http://components.arrow.com/part/dataview/0323_02412074?src-supplier=Arrow+Europe; ComponentLink4Description: http://components.arrow.com/part/dataview/0323_02412074?src-supplier=Arrow+Europe; ComponentLink5URL: http://www.farnell.com/datasheets/1847096.pdf?src-supplier=Farnell; ComponentLink5Description: http://www.farnell.com/datasheets/1847096.pdf?src-supplier=Farnell; ComponentLink6URL: http://www.mouser.com/ds/2/268/9513db-369362.pdf?src-supplier=Mouser; ComponentLink6Description: http://www.mouser.com/ds/2/268/9513db-369362.pdf?src-supplier=Mouser; ComponentLink7URL: http://components.arrow.com/part/dataview/56938165S407427N2064?src-supplier=Arrow; ComponentLink7Description: http://components.arrow.com/part/dataview/56938165S407427N2064?src-supplier=Arrow; ComponentLink8URL: http://www.farnell.com/datasheets/1847096.pdf?src-supplier=Element14; ComponentLink8Description: http://www.farnell.com/datasheets/1847096.pdf?src-supplier=Element14; ComponentLink9URL: http://www.microchip.com/mymicrochip/filehandler.aspx?ddocname=en562262&src-supplier=Digi-Key; ComponentLink9Description: http://www.microchip.com/mymicrochip/filehandler.aspx?ddocname=en562262&src-supplier=Digi-Key; ComponentLink10URL: http://ww1.microchip.com/downloads/en/DeviceDoc/9513.pdf?src-supplier=Avnet; ComponentLink10Description: http://ww1.microchip.com/downloads/en/DeviceDoc/9513.pdf?src-supplier=Avnet; Supplier 2: Mouser; Supplier 1: Digi-Key; Supplier Part Number 1: LAN9513-JZX-ND; Supplier Part Number 2: 886-LAN9513-JZX
footprint LAN951x-JZX (LAN9513 or LAN9514 QFN, 64-Leads, Body 9.1x9.1mm, Pitch 0.5mm, Thermal Pad 7.3x7.3mm)
pins: 1 USBDM2 (io) "Downstream USB peripheral 2 DMINUS signal.", 2 USBDP2 (io) "Downstream USB peripheral 2 DPLUS signal.", 3 USBDM3 (io) "Downstream USB peripheral 3 DMINUS signal.", 4 USBDP3 (io) "Downstream USB peripheral 3 DPLUS signal.", 5 VDD33A (power) "Refer to the LAN9514/LAN9514i reference schematics for connection information.", 6 USBDM4 (io) "Downstream USB peripheral 4 DMINUS signal.", 7 USBDP4 (io) "Downstream USB peripheral 4 DPLUS signal.", 8 NC (io) "Downstream USB peripheral 5 DMINUS signal.", 9 NC (io) "Downstream USB peripheral 5 DPLUS signal.", 10 VDD33A (power) "Refer to the LAN9514/LAN9514i reference schematics for connection information.", 11 VBUS_DET (power) "This pin detects the state of the upstream bus power. The Hub monitors VBUS_DET to determine when to assert the USBDP0 pin's internal pull-up resistor (signaling a connect event). For bus powered hubs, this pin must be tied to VDD33IO. For self powered hubs where the device is permanently attached to a host, VBUS_DET should be pulled to VDD33IO. For other self powered applications, refer to the device reference schematic for additional connection information.", 12 nRESET (in) "This active low pin allows external hardware to reset the device.", 13 TEST1 "Used for factory testing, this pin must always be left unconnected.", 14 PRTCTL2 (io) "When used as an output, this pin enables power to downstream USB peripheral 2. When used as an input, this pin is used to sample the output signal from an external current monitor for downstream USB peripheral 2. An overcurrent condition is indicated when the signal is low.", 15 VDD18CORE (power) "1.8 V power from the internal core voltage regulator. All VDD18CORE pins must be tied together for proper operation.", 16 PRTCTL3 (io) "When used as an output, this pin enables power to downstream USB peripheral 3. When used as an input, this pin is used to sample the output signal from an external current monitor for downstream USB peripheral 3. An overcurrent condition is indicated when the signal is low.", 17 PRTCTL4 (io) "When used as an output, this pin enables power to downstream USB peripheral 4. When used as an input, this pin is used to sample the output signal from an external current monitor for downstream USB peripheral 4. An overcurrent condition is indicated when the signal is low.", 18 NC "When used as an output, this pin enables power to downstream USB peripheral 5. When used as an input, this pin is used to sample the output signal from an external current monitor for downstream USB peripheral 5. An overcurrent condition is indicated when the signal is low.", 19 VDD33IO (power) "3.3V Power Supply for I/O Pins. Refer to the LAN9514/LAN9514i reference schematics for connection information.", 20 nFDX_LED/GPIO0 (io), 21 nLNKA_LED/GPIO1 (io), 22 nSPD_LED/GPIO2 (io), 23 EECLK (out) "This pin drives the EEPROM clock of the external EEPROM.", 24 EECS (out) "This pin drives the chip select output of the external EEPROM.", 25 EEDO (out) "This pin drives the EEDI input of the external EEPROM.", 26 EEDI (in) "This pin is driven by the EEDO output of the external EEPROM.", 27 VDD33IO (power) "3.3V Power Supply for I/O Pins. Refer to the LAN9514/LAN9514i reference schematics for connection information.", 28 nTRST (in) "This active low pin functions as the JTAG test port reset input.", 29 TMS (in) "This pin functions as the JTAG test mode select.", 30 TDI (in) "This pin functions as the JTAG data input.", 31 TDO (out) "This pin functions as the JTAG data output.", 32 TCK (in) "This pin functions as the JTAG test clock.", 33 VDD33IO (power) "3.3V Power Supply for I/O Pins. Refer to the LAN9514/LAN9514i reference schematics for connection information.", 34 TEST2 "Used for factory testing, this pin must always be connected to VSS for proper operation.", 35 GPIO3 (io) "This General Purpose I/O pin is fully programmable as either a push-pull output, an open-drain output, or a Schmitt-triggered input.", 36 GPIO4 (io) "This General Purpose I/O pin is fully programmable as either a push-pull output, an open-drain output, or a Schmitt-triggered input.", 37 GPIO5 (io) "This General Purpose I/O pin is fully programmable as either a push-pull output, an open-drain output, or a Schmitt-triggered input.", 38 VDD18CORE (power) "1.8 V power from the internal core voltage regulator. All VDD18CORE pins must be tied together for proper operation. Refer to the LAN9514/LAN9514i referenceschematics for connection information.", 39 VDD33IO (power) "3.3V Power Supply for I/O Pins. Refer to the LAN9514/LAN9514i reference schematics for connection information.", 40 TEST3 "Used for factory testing, this pin must always be connected to VDD33IO for proper operation.", 41 AUTOMDIX_EN (in) "Determines the default Auto-MDIX setting.", 42 GPIO6 (io) "This General Purpose I/O pin is fully programmable as either a push-pull output, an open-drain output, or a Schmitt-triggered input.", 43 GPIO7 (io) "This General Purpose I/O pin is fully programmable as either a push-pull output, an open-drain output, or a Schmitt-triggered input.", 44 CLK24_EN (in) "This pin enables the generation of the 24 MHz clock on the CLK_24_OUT pin.", 45 CLK24_OUT (out) "This pin outputs a 24 MHz clock that can be used a reference clock for a partner hub.", 46 VDD33IO (power) "3.3V Power Supply for I/O Pins. Refer to the LAN9514/LAN9514i reference schematics for connection information.", 47 TEST4 "Used for factory testing, this pin must always be left unconnected.", 48 VDD18ETHPLL (power) "Refer to the LAN9514/LAN9514i reference schematics for additional connection information.", 49 VDD33A (power) "Refer to the LAN9514/LAN9514i reference schematics for connection information.", 50 EXRES "Used for the internal bias circuits. Connect to an external 12.4K 1.0% resistor to ground.", 51 VDD33A (power) "Refer to the LAN9514/LAN9514i reference schematics for connection information.", 52 RXP (in) "Positive input of the Ethernet receiver. The receive data inputs may be swapped internally with transmit data outputs when Auto-MDIX is enabled.", 53 RXN (in) "Negative input of the Ethernet receiver. The receive data inputs may be swapped internally with transmit data outputs when Auto-MDIX is enabled.", 54 VDD33A (power) "Refer to the LAN9514/LAN9514i reference schematics for connection information.", 55 TXP (out) "Positive output of the Ethernet transmitter. The transmit data outputs may be swapped internally with receive data inputs when Auto-MDIX isenabled.", 56 TXN (out) "Negative output of the Ethernet transmitter. The transmit data outputs may be swapped internally with receive data inputs when Auto-MDIX is enabled.", 57 VDD33A (power) "Refer to the LAN9514/LAN9514i reference schematics for connection information.", 58 USBDM0 (io) "Upstream USB DMINUS signal.", 59 USBDP0 (io) "Upstream USB DPLUS signal.", 60 XO "External 25 MHz crystal output.", 61 XI (in) "External 25 MHz crystal input.", 62 VDD18USBPLL (power) "Refer to the LAN9514/LAN9514i reference schematics for additional connection information.", 63 USBRBIAS "Used for setting HS transmit current level and onchip termination impedance. Connect to an external 12K 1.0% resistor to ground.", 64 VDD33A (power) "Refer to the LAN9514/LAN9514i reference schematics for connection information.", 65 EP (power) "Exposed pad must be connected to VSS."
text: LAN9513; POWER; UPSTREAM; DOWNSTREAM; EEPROM; ETHERNET; GPIO + MISC; CLK; JTAG